# EAGLE library part MAX202_SPECIAL (library OpenMotics)
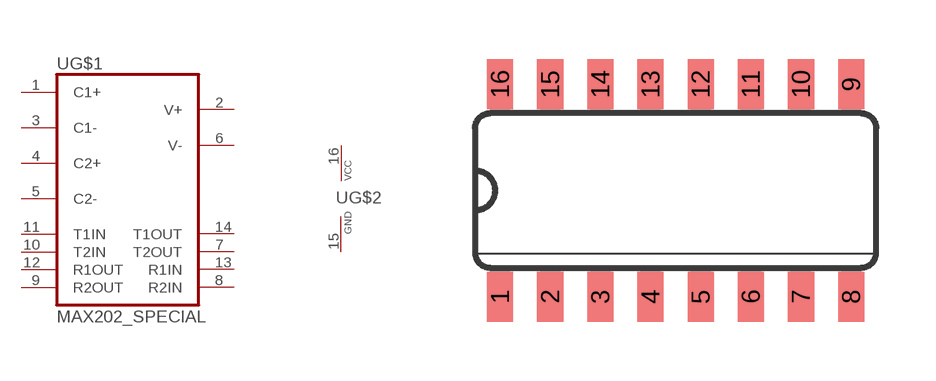
[diagram p10: symbol with the pads of SOIC16_SPECIAL; footprint SOIC16_SPECIAL]

Designator prefix U; gates G$1=MAX202 G$2=VCC_GND

## MAX202_SPECIAL  [SOIC16_SPECIAL]
1  G$1:C1+
2  G$1:V+
3  G$1:C1-
4  G$1:C2+
5  G$1:C2-
6  G$1:V-
7  G$1:T2OUT  out
8  G$1:R2IN  in
9  G$1:R2OUT  out
10  G$1:T2IN  in
11  G$1:T1IN  in
12  G$1:R1OUT  out
13  G$1:R1IN  in
14  G$1:T1OUT  out
15  G$2:GND  pwr
16  G$2:VCC  pwr

## Footprint SOIC16_SPECIAL (pad centres in mm)
smd 0.66 x 1.27: 1 -4.445,0.483; 2 -3.175,0.483; 3 -1.905,0.483; 4 -0.635,0.483; 5 0.635,0.483; 6 1.905,0.483; 7 3.175,0.483; 8 4.445,0.483; 9 4.445,5.867; 10 3.175,5.867; 11 1.905,5.867; 12 0.635,5.867; 13 -0.635,5.867; 14 -1.905,5.867; 15 -3.175,5.867; 16 -4.445,5.867